# Altium integrated library avago.IntLib: 5 symbols
Pins are listed as number, name and electrical type; pins without a type are passive.

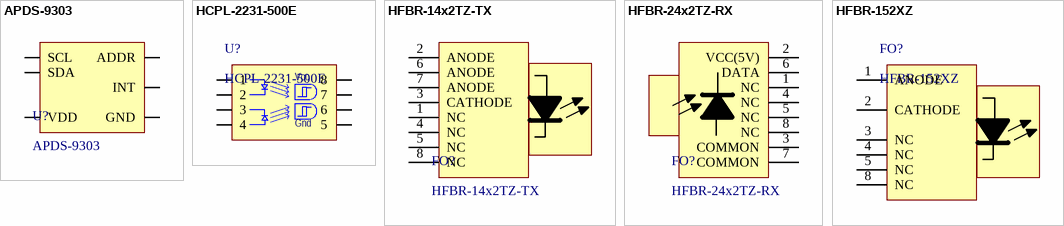
[diagram p0: symbols APDS-9303 to HFBR-152XZ]

## APDS-9303
designator U?
footprint APDS-9303
pins: 1 VDD, 2 GND, 3 ADDR, 4 SCL, 5 SDA, 6 INT

## HCPL-2231-500E
designator U?
High Speed Optocouplers
footprint 8-PIN Gull Wing (Gull Wing Package)
pins: 1, 2, 3, 4, 5, 6, 7, 8
text: Vcc; Gnd

## HFBR-14x2TZ-TX
designator FO?
HFBR-14x2TZ-TX fiber optic threaded ST port
footprint HFBR-x41xTZ (HFBRx41xTZ ST threaded port fiber optic)
pins: 1 NC, 2 ANODE, 3 CATHODE, 4 NC, 5 NC, 6 ANODE, 7 ANODE, 8 NC

## HFBR-24x2TZ-RX
designator FO?
HFBR-24x2TZ-RX fiber optic ST receiver
footprint HFBR-x41xTZ (HFBRx41xTZ ST threaded port fiber optic)
pins: 1 NC, 2 VCC(5V), 3 COMMON, 4 NC, 5 NC, 6 DATA (oc), 7 COMMON, 8 NC

## HFBR-152XZ
designator FO?
HFBR-152XZ-RX fiber optic plastic transmitter
footprint HFBR-x52XZ (Fiber plastic TxRx)
pins: 1 ANODE, 2 CATHODE, 3 NC, 4 NC, 5 NC, 8 NC